# Altium schematic symbol library add2.SchLib: 2 symbols
Pins are listed as number, name and electrical type; pins without a type are passive.

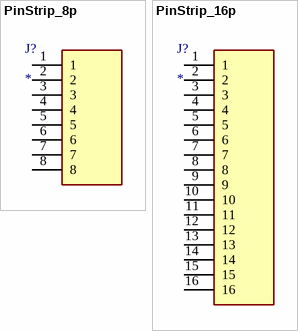
[diagram p0: symbols PinStrip_8p to PinStrip_16p]

## PinStrip_8p
designator J?
Connector; Manufacturer_Name: Wurth Elektronik; Manufacturer_Part_Number: 61300811121; Datasheet Link: http://katalog.we-online.de/em/datasheet/6130xx11121.pdf; Height: 8.54mm; Mouser Part Number: 710-61300811121; Mouser Price/Stock: https://www.mouser.co.uk/ProductDetail/Wurth-Elektronik/61300811121?qs=PhR8RmCirEZRdx%252BVlEmRRA%3D%3D
footprint PinStrip_8p
pins: 1, 2, 3, 4, 5, 6, 7, 8

## PinStrip_16p
designator J?
Connector; Manufacturer_Name: Adam Tech; Manufacturer_Part_Number: PH1-16-UA; Datasheet Link: https://www.arrow.com/en/products/ph1-16-ua/adam-tech; Height: 8.469mm; Arrow Part Number: PH1-16-UA; Arrow Price/Stock: https://www.arrow.com/en/products/ph1-16-ua/adam-tech?region=nac
footprint PinStrip_16p
pins: 1, 2, 3, 4, 5, 6, 7, 8, 9, 10, 11, 12, 13, 14, 15, 16